# Altium schematic symbol library TEFT4300.SchLib: 1 symbol
Pins are listed as number, name and electrical type; pins without a type are passive.

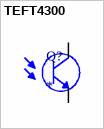
[diagram p0: symbol TEFT4300]

## TEFT4300
designator Q?
Phototransistor 925nm Top View Radial, 3mm Dia _T-1_; MP: TEFT4300; MF: Vishay Semiconductor; Package: Radial Vishay; Price: None; Availability: Unavailable; Value: *; SnapEDA_Link: https://www.snapeda.com/parts/TEFT4300/Vishay%20Semiconductor%20Opto%20Division/view-part/213585/?ref=snap
footprint IRLEDFOOTPRINT
pins: C, E